# EAGLE library part TRM-433-LT (library micromouse-timer-eagle7)
LINX 433 MHz Tranceiver
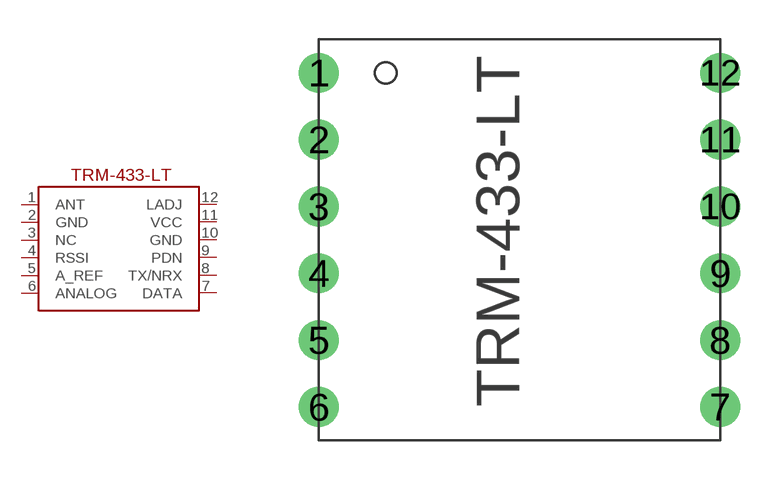
[diagram p2: symbol with the pads of LINX-TRM-433-LT; footprint LINX-TRM-433-LT]

Designator prefix M

## TRM-433-LT  [LINX-TRM-433-LT]
1  ANT  pas
2  GND  pwr
3  NC  nc
4  RSSI  out
5  A_REF
6  ANALOG
7  DATA
8  TX/NRX  in
9  PDN  in
10  GND  pwr
11  VCC  pwr
12  LADJ

## Footprint LINX-TRM-433-LT (pad centres in mm)
drill 1: 1 -7.62,7.62; 2 -7.62,5.08; 3 -7.62,2.54; 4 -7.62,0; 5 -7.62,-2.54; 6 -7.62,-5.08; 7 7.62,-5.08; 8 7.62,-2.54; 9 7.62,0; 10 7.62,2.54; 11 7.62,5.08; 12 7.62,7.62